# Altium footprint library AIUR-16-6R8K.PcbLib: 1 footprints
Each footprint in its own frame and in the unit in brackets; x right, y up, seen from the top. Pads: shape width x height; smd on the part's side, far side on the other; paste and mask are expansions set on the pad; w line width, h text height; cw(c..) or ccw(c..) is an arc to the next point about the centre after c.
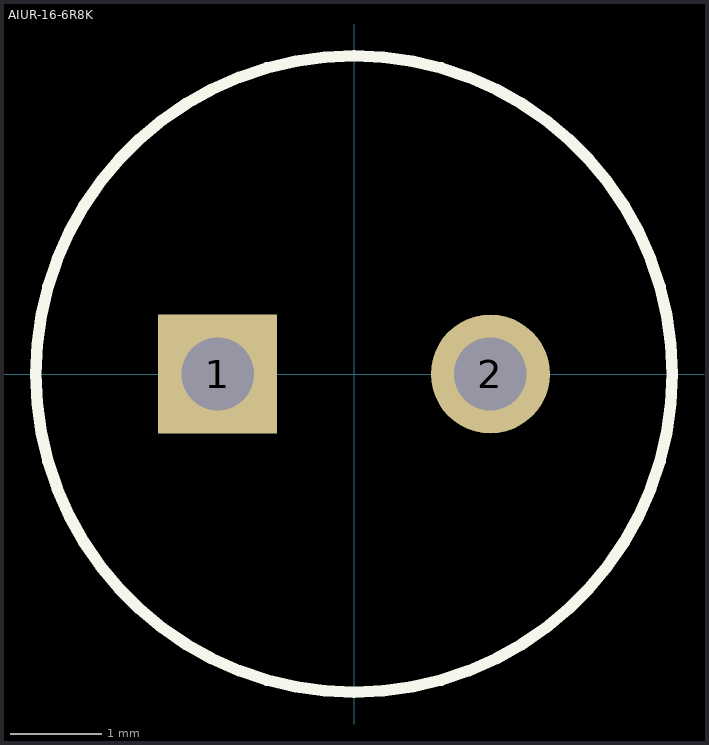
[diagram p0: the footprint, top view; thin cyan lines are the x and y axes]

## AIUR-16-6R8K [mm]
pads (2):
  rect 1.308x1.308 hole 0.8: 1(-1.5,0)
  round 1.308 hole 0.8: 2(1.5,0)
Top Overlay:
  circle w0.127: c0,0 r3.5
3D body "step_temp.STEP": height 3.5, standoff -3.5, extent 0,-3.5 24.5,3.5